# Altium schematic symbol library OPA.SchLib: 5 symbols
Pins are listed as number, name and electrical type; pins without a type are passive.

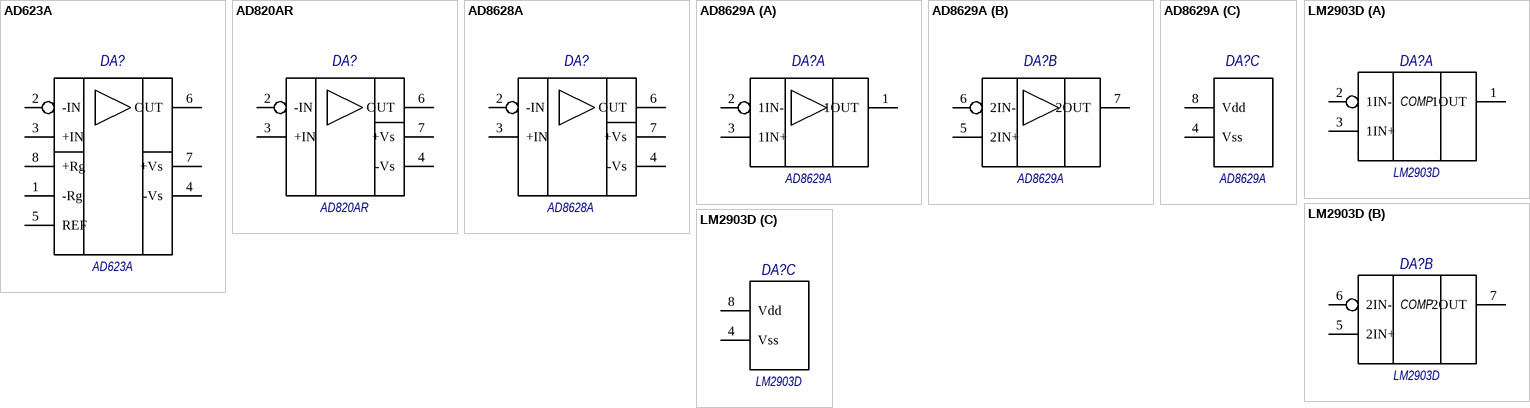
[diagram p0: symbols AD623A to LM2903D]

## AD623A
designator DA?
Single-Supply, Rail-to-Rail Instrumentation Amplifier; Type: AD623A
footprint SO-8
pins: 1 -Rg, 2 -IN, 3 +IN, 4 -Vs, 5 REF, 6 OUT, 7 +Vs, 8 +Rg

## AD820AR
designator DA?  Type: AD820AR  (hidden comment: *)
Single-Supply, Rail-to-Rail, Low Power, FET Input Op Amp
footprint SO-8
pins: 2 -IN, 3 +IN, 4 -Vs, 6 OUT, 7 +Vs

## AD8628A
designator DA?  Type: AD8628A  (hidden comment: *)
footprint SO-8
pins: 2 -IN, 3 +IN, 4 -Vs, 6 OUT, 7 +Vs

## AD8629A
designator DA?
Single-Supply, Rail-to-Rail Instrumentation Amplifier
footprint SO-8
part A pins: 1 1OUT, 2 1IN-, 3 1IN+
part B pins: 5 2IN+, 6 2IN-, 7 2OUT
part C pins: 4 Vss, 8 Vdd

## LM2903D
designator DA?  Type: LM2903D  (hidden comment: *)
Single-Supply, Rail-to-Rail Instrumentation Amplifier
footprint SO-8
part A pins: 1 1OUT, 2 1IN-, 3 1IN+
part B pins: 5 2IN+, 6 2IN-, 7 2OUT
part C pins: 4 Vss, 8 Vdd
part A text: COMP
part B text: COMP